# Altium footprint library con-harting-h.PCBLIB: 11 footprints
Each footprint in its own frame and in the unit in brackets; x right, y up, seen from the top. Pads: shape width x height; smd on the part's side, far side on the other; paste and mask are expansions set on the pad; w line width, h text height; cw(c..) or ccw(c..) is an arc to the next point about the centre after c.
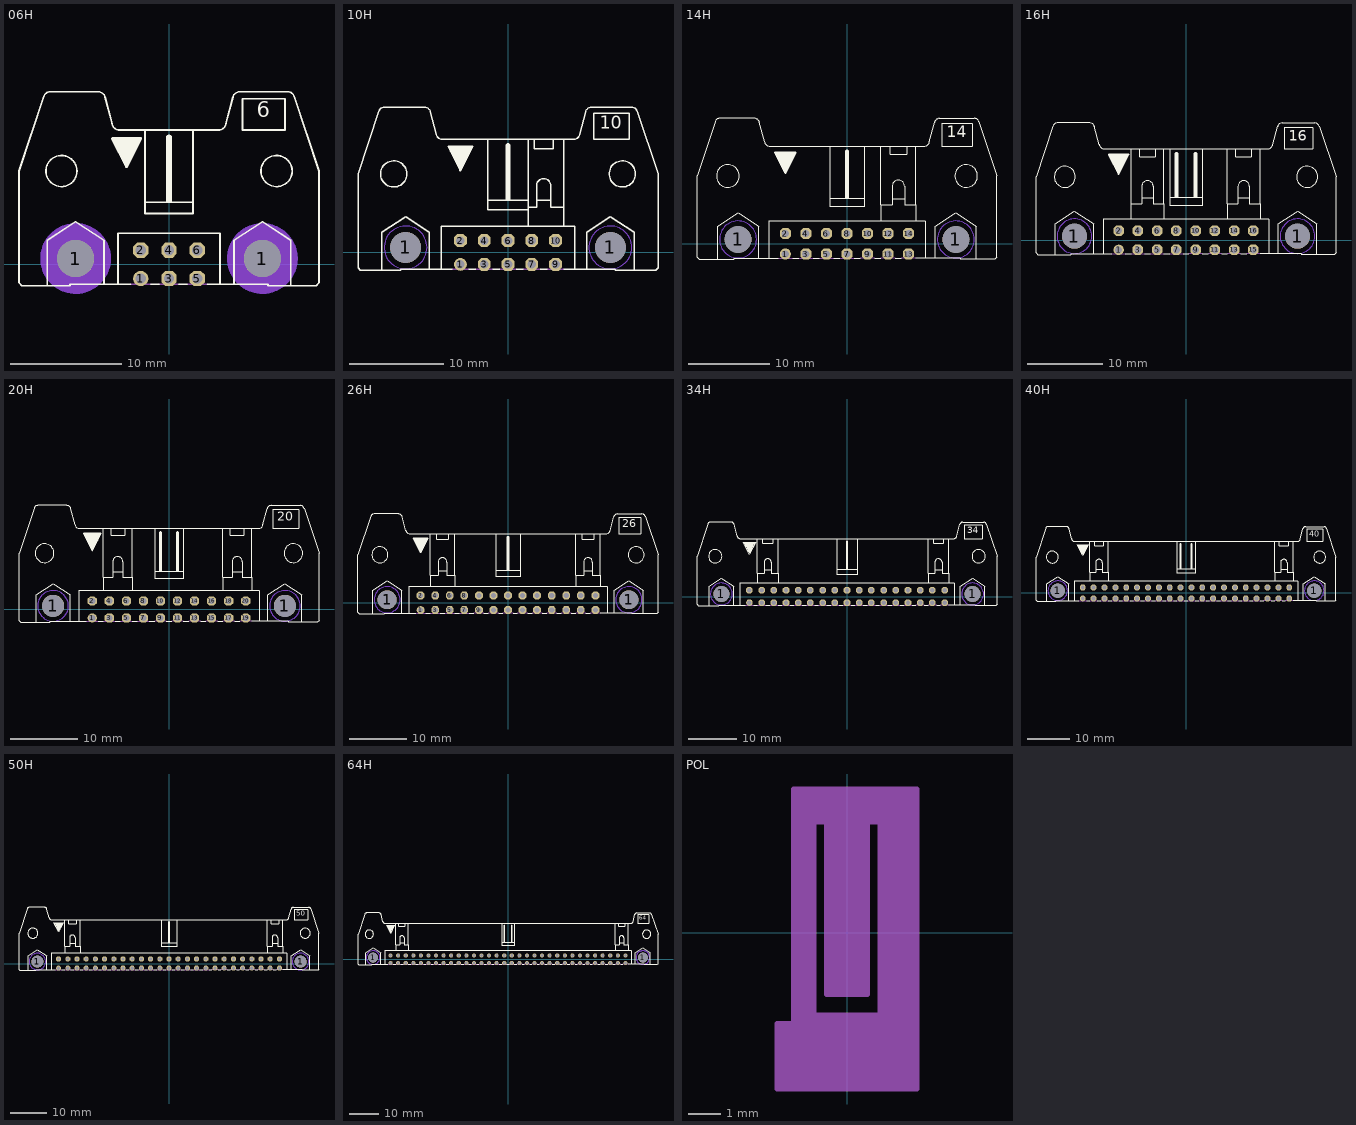
[diagram p0: the footprints below, top view; thin cyan lines are the x and y axes]

## 06H [mil]
pads (8):
  round 130 hole 130: 1(-330,21) 1(330,21)
  round 54 hole 36: 1(-100,-50)
  oct 54x54 hole 36: 2(-100,50) 3(0,-50) 4(0,50) 5(100,-50) 6(100,50)
Bottom Layer keep-out:
  circle w70: c330,21 r90
  circle w70: c-330,21 r90
Top Overlay:
  circle w6: c-330,21 r52
  circle w6: c330,21 r52
  circle w6: c380,330 r55
  circle w6: c-380,330 r55
  rectangle: -10,220 10,450
  rectangle: -195,425 -105,445
  rectangle: -185,405 -115,425
  rectangle: -175,385 -125,405
  rectangle: -165,365 -135,385
  rectangle: -155,355 -145,365
  lines w6: -442,594 -530,330 -530,-65 -520,-75 -430,-75 ; -441.91,594.01 cw(c-420,587) -420,610 -250,610 cw(c-250,585) -226,592 ; -225.75,591.06 ccw(c-250.08,585.09) -226,592 ; -201.76,498.43 ccw(c-175,502) -175,475 -85,475 ; -201,496 -226,592 ; -135,-70 -180,-70 ; -65,-70 -35,-70 ; 35,-70 65,-70 ; 135,-70 180,-70 ; 201,496 226,592 ; 201.76,498.43 cw(c175,502) 175,475 85,475 ; 225.75,591.06 cw(c250.08,585.09) 226,592 ; 441.9,594.01 ccw(c420,587) 420,610 250,610 ccw(c250,585) 226,592 ; 442,594 530,330 530,-65 520,-75 430,-75 ; -430,-75 -430,85 -330,150 -230,85 -230,-70 ; -430,-75 -350,-75 -350,-70 -230,-70 ; -230,-70 -180,-70 ; -180,-70 -180,110 180,110 180,-70 ; -85,220 -85,475 ; -85,220 85,220 ; -85,220 -85,180 85,180 85,220 ; -85,475 85,475 ; 85,220 85,475 ; 180,-70 230,-70 ; 230,-70 350,-70 350,-75 430,-75 ; 230,-70 230,85 330,150 430,85 430,-75 ; 260,475 260,585 410,585 410,475 260,475
  lines w10: -200,445 -100,445 -150,345 -200,445
  lines w20: 0,440 0,450
  text "6" at 310,500 h93
Mechanical 16:
  lines w6: -135,-70 -65,-70 ; -35,-70 35,-70 ; 65,-70 135,-70
  text "1" at -157,-56 h77.5
  text "2" at -158,24 h77.5
Via Holes:
  circle w70: c330,21 r90
  circle w70: c-330,21 r90

## 10H [mil]
pads (12):
  round 130 hole 130: 1(-430,21) 1(430,21)
  round 54 hole 36: 1(-200,-50)
  oct 54x54 hole 36: 2(-200,50) 3(-100,-50) 4(-100,50) 5(0,-50) 6(0,50) 7(100,-50) 8(100,50) 9(200,-50) 10(200,50)
Bottom Layer keep-out:
  circle w0: c430,21 r90
  circle w0: c-430,21 r90
Top Overlay:
  circle w6: c-430,21 r52
  circle w6: c430,21 r52
  circle w6: c480,330 r55
  circle w6: c-480,330 r55
  rectangle: -10,220 10,450
  rectangle: -245,425 -155,445
  rectangle: -235,405 -165,425
  rectangle: -225,385 -175,405
  rectangle: -215,365 -185,385
  rectangle: -205,355 -195,365
  lines w6: -542,594 -630,330 -630,-65 -620,-75 -530,-75 ; -541.91,594.01 cw(c-520,587) -520,610 -350,610 cw(c-350,585) -326,592 ; -325.75,591.06 ccw(c-350.08,585.09) -326,592 ; -301.76,498.43 ccw(c-275,502) -275,475 -85,475 ; -301,496 -326,592 ; -235,-70 -280,-70 ; -165,-70 -135,-70 ; -65,-70 -35,-70 ; 35,-70 65,-70 ; 110,475 110,435 190,435 190,475 ; 135,-70 165,-70 ; 235,-70 280,-70 ; 301,496 326,592 ; 301.76,498.43 cw(c275,502) 275,475 235,475 ; 325.75,591.06 cw(c350.08,585.09) 326,592 ; 541.9,594.01 ccw(c520,587) 520,610 350,610 ccw(c350,585) 326,592 ; 542,594 630,330 630,-65 620,-75 530,-75 ; -530,-75 -530,85 -430,150 -330,85 -330,-70 ; -530,-75 -450,-75 -450,-70 -330,-70 ; -330,-70 -280,-70 ; -280,-70 -280,110 85,110 ; -85,220 -85,475 ; -85,220 85,220 ; -85,220 -85,180 85,180 ; -85,475 85,475 ; 85,110 85,180 ; 85,110 235,110 ; 85,180 85,190 ; 85,190 120,190 120,220 ; 85,190 85,220 ; 85,220 85,475 ; 85,475 235,475 ; 120,220 120,280 cw(c150,280) 180,280 180,220 ; 120,220 180,220 ; 180,220 180,190 235,190 ; 235,110 235,190 ; 235,110 280,110 280,-70 ; 235,190 235,475 ; 280,-70 330,-70 ; 330,-70 450,-70 450,-75 530,-75 ; 330,-70 330,85 430,150 530,85 530,-75 ; 360,475 360,585 510,585 510,475 360,475
  lines w10: -250,445 -150,445 -200,345 -250,445
  lines w20: 0,440 0,450
  text "10" at 385,500 h93
Mechanical 16:
  lines w6: -235,-70 -165,-70 ; -135,-70 -65,-70 ; -35,-70 35,-70 ; 65,-70 135,-70 ; 165,-70 235,-70
  text "1" at -257,-56 h77.5
  text "2" at -258,24 h77.5
Via Holes:
  circle w0: c430,21 r90
  circle w0: c-430,21 r90

## 14H [mil]
pads (16):
  round 130 hole 130: 1(-530,21) 1(530,21)
  round 54 hole 36: 1(-300,-50)
  oct 54x54 hole 36: 2(-300,50) 3(-200,-50) 4(-200,50) 5(-100,-50) 6(-100,50) 7(0,-50) 8(0,50) 9(100,-50) 10(100,50) 11(200,-50) 12(200,50) 13(300,-50) 14(300,50)
Bottom Layer keep-out:
  circle w0: c530,21 r90
  circle w0: c-530,21 r90
Top Overlay:
  circle w6: c-530,21 r52
  circle w6: c530,21 r52
  circle w6: c580,330 r55
  circle w6: c-580,330 r55
  rectangle: -10,220 10,450
  rectangle: -345,425 -255,445
  rectangle: -335,405 -265,425
  rectangle: -325,385 -275,405
  rectangle: -315,365 -285,385
  rectangle: -305,355 -295,365
  lines w6: -642,594 -730,330 -730,-65 -720,-75 -630,-75 ; -641.91,594.01 cw(c-620,587) -620,610 -450,610 cw(c-450,585) -426,592 ; -425.75,591.06 ccw(c-450.08,585.09) -426,592 ; -401.76,498.43 ccw(c-375,502) -375,475 -85,475 ; -401,496 -426,592 ; -335,-70 -380,-70 ; -265,-70 -235,-70 ; -165,-70 -135,-70 ; -65,-70 -35,-70 ; 35,-70 65,-70 ; 135,-70 165,-70 ; 210,475 210,435 290,435 290,475 ; 235,-70 265,-70 ; 335,-70 380,-70 ; 335,475 335,190 ; 401,496 426,592 ; 401.76,498.43 cw(c375,502) 375,475 165,475 ; 425.75,591.06 cw(c450.08,585.09) 426,592 ; 641.9,594.01 ccw(c620,587) 620,610 450,610 ccw(c450,585) 426,592 ; 642,594 730,330 730,-65 720,-75 630,-75 ; -630,-75 -630,85 -530,150 -430,85 -430,-70 ; -630,-75 -550,-75 -550,-70 -430,-70 ; -430,-70 -380,-70 ; -380,-70 -380,110 165,110 ; -85,220 -85,475 ; -85,220 85,220 ; -85,220 -85,180 85,180 85,220 ; -85,475 85,475 ; 85,220 85,475 ; 85,475 165,475 ; 165,110 335,110 ; 165,110 165,190 ; 165,190 220,190 220,220 ; 165,190 165,475 ; 220,220 220,280 cw(c250,280) 280,280 280,220 ; 220,220 280,220 ; 280,220 280,190 335,190 ; 335,110 335,190 ; 335,110 380,110 380,-70 ; 380,-70 430,-70 ; 430,-70 550,-70 550,-75 630,-75 ; 430,-70 430,85 530,150 630,85 630,-75 ; 460,475 460,585 610,585 610,475 460,475
  lines w10: -350,445 -250,445 -300,345 -350,445
  lines w20: 0,440 0,450
  text "14" at 485,500 h93
Mechanical 16:
  lines w6: -335,-70 -265,-70 ; -235,-70 -165,-70 ; -135,-70 -65,-70 ; -35,-70 35,-70 ; 65,-70 135,-70 ; 165,-70 235,-70 ; 265,-70 335,-70
  text "1" at -357,-56 h77.5
  text "2" at -358,24 h77.5
Via Holes:
  circle w0: c530,21 r90
  circle w0: c-530,21 r90

## 16H [mil]
pads (18):
  round 130 hole 130: 1(-580,21) 1(580,21)
  round 54 hole 36: 1(-350,-50)
  oct 54x54 hole 36: 2(-350,50) 3(-250,-50) 4(-250,50) 5(-150,-50) 6(-150,50) 7(-50,-50) 8(-50,50) 9(50,-50) 10(50,50) 11(150,-50) 12(150,50) 13(250,-50) 14(250,50) 15(350,-50) 16(350,50)
Bottom Layer keep-out:
  circle w0: c-580,21 r90
  circle w0: c580,21 r90
Top Overlay:
  circle w6: c-580,21 r52
  circle w6: c580,21 r52
  circle w6: c630,330 r55
  circle w6: c-630,330 r55
  rectangle: 40,220 60,450
  rectangle: -395,425 -305,445
  rectangle: -385,405 -315,425
  rectangle: -375,385 -325,405
  rectangle: -365,365 -335,385
  rectangle: -355,355 -345,365
  rectangle: -60,220 -40,450
  lines w6: -692,594 -780,330 -780,-65 -770,-75 -680,-75 ; -691.91,594.01 cw(c-670,587) -670,610 -500,610 cw(c-500,585) -476,592 ; -475.75,591.06 ccw(c-500.08,585.09) -476,592 ; -451.76,498.43 ccw(c-425,502) -425,475 -285,475 ; -451,496 -476,592 ; -385,-70 -430,-70 ; -315,-70 -285,-70 ; -215,-70 -185,-70 ; -115,-70 -85,-70 ; -15,-70 15,-70 ; 85,-70 115,-70 ; 185,-70 215,-70 ; 260,475 260,435 340,435 340,475 ; 285,-70 315,-70 ; 385,-70 430,-70 ; 385,475 385,190 ; 451,496 476,592 ; 451.76,498.43 cw(c425,502) 425,475 215,475 ; 475.75,591.06 cw(c500.08,585.09) 476,592 ; 691.9,594.01 ccw(c670,587) 670,610 500,610 ccw(c500,585) 476,592 ; 692,594 780,330 780,-65 770,-75 680,-75 ; -680,-75 -680,85 -580,150 -480,85 -480,-70 ; -680,-75 -600,-75 -600,-70 -480,-70 ; -480,-70 -430,-70 ; -430,-70 -430,110 -285,110 ; -285,110 -285,190 ; -285,110 -115,110 ; -285,190 -285,475 ; -285,190 -230,190 -230,220 ; -285,475 -240,475 ; -240,475 -240,435 -160,435 -160,475 ; -240,475 -160,475 ; -230,220 -170,220 ; -230,220 -230,280 cw(c-200,280) -170,280 -170,220 ; -170,220 -170,190 -115,190 ; -160,475 -115,475 ; -115,110 215,110 ; -115,110 -115,190 ; -115,190 -115,475 ; -115,475 -85,475 ; -85,220 -85,475 ; -85,220 85,220 ; -85,220 -85,180 85,180 85,220 ; -85,475 85,475 ; 85,220 85,475 ; 85,475 215,475 ; 215,110 385,110 ; 215,110 215,190 ; 215,190 270,190 270,220 ; 215,190 215,475 ; 270,220 270,280 cw(c300,280) 330,280 330,220 ; 270,220 330,220 ; 330,220 330,190 385,190 ; 385,110 385,190 ; 385,110 430,110 430,-70 ; 430,-70 480,-70 ; 480,-70 600,-70 600,-75 680,-75 ; 480,-70 480,85 580,150 680,85 680,-75 ; 510,475 510,585 660,585 660,475 510,475
  lines w10: -400,445 -300,445 -350,345 -400,445
  lines w20: -50,440 -50,450 ; 50,440 50,450
  text "16" at 535,500 h93
Mechanical 16:
  lines w6: -385,-70 -315,-70 ; -285,-70 -215,-70 ; -185,-70 -115,-70 ; -85,-70 -15,-70 ; 15,-70 85,-70 ; 115,-70 185,-70 ; 215,-70 285,-70 ; 315,-70 385,-70
  text "1" at -407,-56 h77.5
  text "2" at -408,24 h77.5
Via Holes:
  circle w0: c-580,21 r90
  circle w0: c580,21 r90

## 20H [mil]
pads (22):
  round 130 hole 130: 1(-680,21) 1(680,21)
  round 54 hole 36: 1(-450,-50)
  oct 54x54 hole 36: 2(-450,50) 3(-350,-50) 4(-350,50) 5(-250,-50) 6(-250,50) 7(-150,-50) 8(-150,50) 9(-50,-50) 10(-50,50) 11(50,-50) 12(50,50) 13(150,-50) 14(150,50) 15(250,-50) 16(250,50) 17(350,-50) 18(350,50) 19(450,-50) 20(450,50)
Bottom Layer keep-out:
  circle w0: c-680,21 r90
  circle w0: c680,21 r90
Top Overlay:
  circle w6: c-680,21 r52
  circle w6: c680,21 r52
  circle w6: c730,330 r55
  circle w6: c-730,330 r55
  rectangle: 40,220 60,450
  rectangle: -495,425 -405,445
  rectangle: -485,405 -415,425
  rectangle: -475,385 -425,405
  rectangle: -465,365 -435,385
  rectangle: -455,355 -445,365
  rectangle: -60,220 -40,450
  lines w6: -792,594 -880,330 -880,-65 -870,-75 -780,-75 ; -791.91,594.01 cw(c-770,587) -770,610 -600,610 cw(c-600,585) -576,592 ; -575.75,591.06 ccw(c-600.08,585.09) -576,592 ; -551.76,498.43 ccw(c-525,502) -525,475 -385,475 ; -551,496 -576,592 ; -485,-70 -530,-70 ; -415,-70 -385,-70 ; -315,-70 -285,-70 ; -215,-70 -185,-70 ; -115,-70 -85,-70 ; -15,-70 15,-70 ; 85,-70 115,-70 ; 185,-70 215,-70 ; 285,-70 315,-70 ; 360,475 360,435 440,435 440,475 ; 385,-70 415,-70 ; 485,-70 530,-70 ; 485,475 485,190 ; 551,496 576,592 ; 551.76,498.43 cw(c525,502) 525,475 315,475 ; 575.75,591.06 cw(c600.08,585.09) 576,592 ; 791.9,594.01 ccw(c770,587) 770,610 600,610 ccw(c600,585) 576,592 ; 792,594 880,330 880,-65 870,-75 780,-75 ; -780,-75 -780,85 -680,150 -580,85 -580,-70 ; -780,-75 -700,-75 -700,-70 -580,-70 ; -580,-70 -530,-70 ; -530,-70 -530,110 -385,110 ; -385,110 -385,190 ; -385,110 -215,110 ; -385,190 -385,475 ; -385,190 -330,190 -330,220 ; -385,475 -340,475 ; -340,475 -340,435 -260,435 -260,475 ; -340,475 -260,475 ; -330,220 -270,220 ; -330,220 -330,280 cw(c-300,280) -270,280 -270,220 ; -270,220 -270,190 -215,190 ; -260,475 -215,475 ; -215,110 315,110 ; -215,110 -215,190 ; -215,190 -215,475 ; -215,475 -85,475 ; -85,220 -85,475 ; -85,220 85,220 ; -85,220 -85,180 85,180 85,220 ; -85,475 85,475 ; 85,220 85,475 ; 85,475 315,475 ; 315,110 485,110 ; 315,110 315,190 ; 315,190 370,190 370,220 ; 315,190 315,475 ; 370,220 370,280 cw(c400,280) 430,280 430,220 ; 370,220 430,220 ; 430,220 430,190 485,190 ; 485,110 485,190 ; 485,110 530,110 530,-70 ; 530,-70 580,-70 ; 580,-70 700,-70 700,-75 780,-75 ; 580,-70 580,85 680,150 780,85 780,-75 ; 610,475 610,585 760,585 760,475 610,475
  lines w10: -500,445 -400,445 -450,345 -500,445
  lines w20: -50,440 -50,450 ; 50,440 50,450
  text "20" at 635,500 h93
Mechanical 16:
  lines w6: -485,-70 -415,-70 ; -385,-70 -315,-70 ; -285,-70 -215,-70 ; -185,-70 -115,-70 ; -85,-70 -15,-70 ; 15,-70 85,-70 ; 115,-70 185,-70 ; 215,-70 285,-70 ; 315,-70 385,-70 ; 415,-70 485,-70
  text "1" at -507,-56 h77.5
  text "2" at -508,24 h77.5
Via Holes:
  circle w0: c-680,21 r90
  circle w0: c680,21 r90

## 26H [mil]
pads (28):
  round 130 hole 130: 1(-830,21) 1(830,21)
  round 54 hole 36: 1(-600,-50)
  oct 54x54 hole 36: 2(-600,50) 3(-500,-50) 4(-500,50) 5(-400,-50) 6(-400,50) 7(-300,-50) 8(-300,50) 9(-200,-50) 10(-200,50) 11(-100,-50) 12(-100,50) 13(0,-50) 14(0,50) 15(100,-50) 16(100,50) 17(200,-50) 18(200,50) 19(300,-50) 20(300,50) 21(400,-50) 22(400,50) 23(500,-50) 24(500,50) 25(600,-50) 26(600,50)
Bottom Layer keep-out:
  circle w0: c-830,21 r90
  circle w0: c830,21 r90
Top Overlay:
  circle w6: c-830,21 r52
  circle w6: c830,21 r52
  circle w6: c880,330 r55
  circle w6: c-880,330 r55
  rectangle: -645,425 -555,445
  rectangle: -635,405 -565,425
  rectangle: -625,385 -575,405
  rectangle: -615,365 -585,385
  rectangle: -605,355 -595,365
  rectangle: -10,220 10,450
  lines w6: -942,594 -1030,330 -1030,-65 -1020,-75 -930,-75 ; -941.91,594.01 cw(c-920,587) -920,610 -750,610 cw(c-750,585) -726,592 ; -725.75,591.06 ccw(c-750.08,585.09) -726,592 ; -701.76,498.43 ccw(c-675,502) -675,475 -535,475 ; -701,496 -726,592 ; -635,-70 -680,-70 ; -565,-70 -535,-70 ; -465,-70 -435,-70 ; -365,-70 -335,-70 ; -265,-70 -235,-70 ; -165,-70 -135,-70 ; -65,-70 -35,-70 ; 35,-70 65,-70 ; 135,-70 165,-70 ; 235,-70 265,-70 ; 335,-70 365,-70 ; 435,-70 465,-70 ; 510,475 510,435 590,435 590,475 ; 535,-70 565,-70 ; 635,-70 680,-70 ; 635,475 635,190 ; 701,496 726,592 ; 701.76,498.43 cw(c675,502) 675,475 465,475 ; 725.75,591.06 cw(c750.08,585.09) 726,592 ; 941.9,594.01 ccw(c920,587) 920,610 750,610 ccw(c750,585) 726,592 ; 942,594 1030,330 1030,-65 1020,-75 930,-75 ; -930,-75 -930,85 -830,150 -730,85 -730,-70 ; -930,-75 -850,-75 -850,-70 -730,-70 ; -730,-70 -680,-70 ; -680,-70 -680,110 -535,110 ; -535,110 -535,190 ; -535,110 -365,110 ; -535,190 -535,475 ; -535,190 -480,190 -480,220 ; -535,475 -490,475 ; -490,475 -490,435 -410,435 -410,475 ; -490,475 -410,475 ; -480,220 -420,220 ; -480,220 -480,280 cw(c-450,280) -420,280 -420,220 ; -420,220 -420,190 -365,190 ; -410,475 -365,475 ; -365,110 465,110 ; -365,110 -365,190 ; -365,190 -365,475 ; -365,475 -85,475 ; -85,220 -85,475 ; -85,220 85,220 ; -85,220 -85,180 85,180 85,220 ; -85,475 85,475 ; 85,220 85,475 ; 85,475 465,475 ; 465,110 635,110 ; 465,110 465,190 ; 465,190 520,190 520,220 ; 465,190 465,475 ; 520,220 520,280 cw(c550,280) 580,280 580,220 ; 520,220 580,220 ; 580,220 580,190 635,190 ; 635,110 635,190 ; 635,110 680,110 680,-70 ; 680,-70 730,-70 ; 730,-70 850,-70 850,-75 930,-75 ; 730,-70 730,85 830,150 930,85 930,-75 ; 760,475 760,585 910,585 910,475 760,475
  lines w10: -650,445 -550,445 -600,345 -650,445
  lines w20: 0,440 0,450
  text "26" at 785,500 h93
Mechanical 16:
  lines w6: -635,-70 -565,-70 ; -535,-70 -465,-70 ; -435,-70 -365,-70 ; -335,-70 -265,-70 ; -235,-70 -165,-70 ; -135,-70 -65,-70 ; -35,-70 35,-70 ; 65,-70 135,-70 ; 165,-70 235,-70 ; 265,-70 335,-70 ; 365,-70 435,-70 ; 465,-70 535,-70 ; 565,-70 635,-70
  text "1" at -657,-56 h77.5
  text "2" at -658,24 h77.5
Via Holes:
  circle w0: c-830,21 r90
  circle w0: c830,21 r90

## 34H [mil]
pads (36):
  round 130 hole 130: 1(-1030,21) 1(1030,21)
  round 54 hole 36: 1(-800,-50)
  oct 54x54 hole 36: 2(-800,50) 3(-700,-50) 4(-700,50) 5(-600,-50) 6(-600,50) 7(-500,-50) 8(-500,50) 9(-400,-50) 10(-400,50) 11(-300,-50) 12(-300,50) 13(-200,-50) 14(-200,50) 15(-100,-50) 16(-100,50) 17(0,-50) 18(0,50) 19(100,-50) 20(100,50) 21(200,-50) 22(200,50) 23(300,-50) 24(300,50) 25(400,-50) 26(400,50) 27(500,-50) 28(500,50) 29(600,-50) 30(600,50) 31(700,-50) 32(700,50) 33(800,-50) 34(800,50)
Bottom Layer keep-out:
  circle w0: c-1030,21 r90
  circle w0: c1030,21 r90
Top Overlay:
  circle w6: c-1030,21 r52
  circle w6: c1030,21 r52
  circle w6: c1080,330 r55
  circle w6: c-1080,330 r55
  rectangle: -845,425 -755,445
  rectangle: -835,405 -765,425
  rectangle: -825,385 -775,405
  rectangle: -815,365 -785,385
  rectangle: -805,355 -795,365
  rectangle: -10,220 10,450
  lines w6: -1142,594 -1230,330 -1230,-65 -1220,-75 -1130,-75 ; -1141.91,594.01 cw(c-1120,587) -1120,610 -950,610 cw(c-950,585) -926,592 ; -925.75,591.06 ccw(c-950.08,585.09) -926,592 ; -901.76,498.43 ccw(c-875,502) -875,475 -735,475 ; -901,496 -926,592 ; -835,-70 -880,-70 ; -765,-70 -735,-70 ; -665,-70 -635,-70 ; -565,-70 -535,-70 ; -465,-70 -435,-70 ; -365,-70 -335,-70 ; -265,-70 -235,-70 ; -165,-70 -135,-70 ; -65,-70 -35,-70 ; 35,-70 65,-70 ; 135,-70 165,-70 ; 235,-70 265,-70 ; 335,-70 365,-70 ; 435,-70 465,-70 ; 535,-70 565,-70 ; 635,-70 665,-70 ; 710,475 710,435 790,435 790,475 ; 735,-70 765,-70 ; 835,-70 880,-70 ; 835,475 835,190 ; 901,496 926,592 ; 901.76,498.43 cw(c875,502) 875,475 665,475 ; 925.75,591.06 cw(c950.08,585.09) 926,592 ; 1141.9,594.01 ccw(c1120,587) 1120,610 950,610 ccw(c950,585) 926,592 ; 1142,594 1230,330 1230,-65 1220,-75 1130,-75 ; -1130,-75 -1130,85 -1030,150 -930,85 -930,-70 ; -1130,-75 -1050,-75 -1050,-70 -930,-70 ; -930,-70 -880,-70 ; -880,-70 -880,110 -735,110 ; -735,110 -735,190 ; -735,110 -565,110 ; -735,190 -735,475 ; -735,190 -680,190 -680,220 ; -735,475 -690,475 ; -690,475 -690,435 -610,435 -610,475 ; -690,475 -610,475 ; -680,220 -620,220 ; -680,220 -680,280 cw(c-650,280) -620,280 -620,220 ; -620,220 -620,190 -565,190 ; -610,475 -565,475 ; -565,110 665,110 ; -565,110 -565,190 ; -565,190 -565,475 ; -565,475 -85,475 ; -85,220 -85,475 ; -85,220 85,220 ; -85,220 -85,180 85,180 85,220 ; -85,475 85,475 ; 85,220 85,475 ; 85,475 665,475 ; 665,110 835,110 ; 665,110 665,190 ; 665,190 720,190 720,220 ; 665,190 665,475 ; 720,220 720,280 cw(c750,280) 780,280 780,220 ; 720,220 780,220 ; 780,220 780,190 835,190 ; 835,110 835,190 ; 835,110 880,110 880,-70 ; 880,-70 930,-70 ; 930,-70 1050,-70 1050,-75 1130,-75 ; 930,-70 930,85 1030,150 1130,85 1130,-75 ; 960,475 960,585 1110,585 1110,475 960,475
  lines w10: -850,445 -750,445 -800,345 -850,445
  lines w20: 0,440 0,450
  text "34" at 985,500 h93
Mechanical 16:
  lines w6: -835,-70 -765,-70 ; -735,-70 -665,-70 ; -635,-70 -565,-70 ; -535,-70 -465,-70 ; -435,-70 -365,-70 ; -335,-70 -265,-70 ; -235,-70 -165,-70 ; -135,-70 -65,-70 ; -35,-70 35,-70 ; 65,-70 135,-70 ; 165,-70 235,-70 ; 265,-70 335,-70 ; 365,-70 435,-70 ; 465,-70 535,-70 ; 565,-70 635,-70 ; 665,-70 735,-70 ; 765,-70 835,-70
  text "1" at -857,-56 h77.5
  text "2" at -858,24 h77.5
Via Holes:
  circle w0: c-1030,21 r90
  circle w0: c1030,21 r90

## 40H [mil]
pads (42):
  round 130 hole 130: 1(-1180,21) 1(1180,21)
  round 54 hole 36: 1(-950,-50)
  oct 54x54 hole 36: 2(-950,50) 3(-850,-50) 4(-850,50) 5(-750,-50) 6(-750,50) 7(-650,-50) 8(-650,50) 9(-550,-50) 10(-550,50) 11(-450,-50) 12(-450,50) 13(-350,-50) 14(-350,50) 15(-250,-50) 16(-250,50) 17(-150,-50) 18(-150,50) 19(-50,-50) 20(-50,50) 21(50,-50) 22(50,50) 23(150,-50) 24(150,50) 25(250,-50) 26(250,50) 27(350,-50) 28(350,50) 29(450,-50) 30(450,50) 31(550,-50) 32(550,50) 33(650,-50) 34(650,50) 35(750,-50) 36(750,50) 37(850,-50) 38(850,50) 39(950,-50) 40(950,50)
Bottom Layer keep-out:
  circle w0: c-1180,21 r90
  circle w0: c1180,21 r90
Top Overlay:
  circle w6: c-1180,21 r52
  circle w6: c1180,21 r52
  circle w6: c1230,330 r55
  circle w6: c-1230,330 r55
  rectangle: 40,220 60,450
  rectangle: -995,425 -905,445
  rectangle: -985,405 -915,425
  rectangle: -975,385 -925,405
  rectangle: -965,365 -935,385
  rectangle: -955,355 -945,365
  rectangle: -60,220 -40,450
  lines w6: -1292,594 -1380,330 -1380,-65 -1370,-75 -1280,-75 ; -1291.91,594.01 cw(c-1270,587) -1270,610 -1100,610 cw(c-1100,585) -1076,592 ; -1075.75,591.06 ccw(c-1100.08,585.09) -1076,592 ; -1051.76,498.43 ccw(c-1025,502) -1025,475 -885,475 ; -1051,496 -1076,592 ; -985,-70 -1030,-70 ; -915,-70 -885,-70 ; -815,-70 -785,-70 ; -715,-70 -685,-70 ; -615,-70 -585,-70 ; -515,-70 -485,-70 ; -415,-70 -385,-70 ; -315,-70 -285,-70 ; -215,-70 -185,-70 ; -115,-70 -85,-70 ; -15,-70 15,-70 ; 85,-70 115,-70 ; 185,-70 215,-70 ; 285,-70 315,-70 ; 385,-70 415,-70 ; 485,-70 515,-70 ; 585,-70 615,-70 ; 685,-70 715,-70 ; 785,-70 815,-70 ; 860,475 860,435 940,435 940,475 ; 885,-70 915,-70 ; 985,-70 1030,-70 ; 985,475 985,190 ; 1051,496 1076,592 ; 1051.76,498.43 cw(c1025,502) 1025,475 815,475 ; 1075.75,591.06 cw(c1100.08,585.09) 1076,592 ; 1291.9,594.01 ccw(c1270,587) 1270,610 1100,610 ccw(c1100,585) 1076,592 ; 1292,594 1380,330 1380,-65 1370,-75 1280,-75 ; -1280,-75 -1280,85 -1180,150 -1080,85 -1080,-70 ; -1280,-75 -1200,-75 -1200,-70 -1080,-70 ; -1080,-70 -1030,-70 ; -1030,-70 -1030,110 -885,110 ; -885,110 -885,190 ; -885,110 -715,110 ; -885,190 -885,475 ; -885,190 -830,190 -830,220 ; -885,475 -840,475 ; -840,475 -840,435 -760,435 -760,475 ; -840,475 -760,475 ; -830,220 -770,220 ; -830,220 -830,280 cw(c-800,280) -770,280 -770,220 ; -770,220 -770,190 -715,190 ; -760,475 -715,475 ; -715,110 815,110 ; -715,110 -715,190 ; -715,190 -715,475 ; -715,475 -85,475 ; -85,220 -85,475 ; -85,220 85,220 ; -85,220 -85,180 85,180 85,220 ; -85,475 85,475 ; 85,220 85,475 ; 85,475 815,475 ; 815,110 985,110 ; 815,110 815,190 ; 815,190 870,190 870,220 ; 815,190 815,475 ; 870,220 870,280 cw(c900,280) 930,280 930,220 ; 870,220 930,220 ; 930,220 930,190 985,190 ; 985,110 985,190 ; 985,110 1030,110 1030,-70 ; 1030,-70 1080,-70 ; 1080,-70 1200,-70 1200,-75 1280,-75 ; 1080,-70 1080,85 1180,150 1280,85 1280,-75 ; 1110,475 1110,585 1260,585 1260,475 1110,475
  lines w10: -1000,445 -900,445 -950,345 -1000,445
  lines w20: -50,440 -50,450 ; 50,440 50,450
  text "40" at 1135,500 h93
Mechanical 16:
  lines w6: -985,-70 -915,-70 ; -885,-70 -815,-70 ; -785,-70 -715,-70 ; -685,-70 -615,-70 ; -585,-70 -515,-70 ; -485,-70 -415,-70 ; -385,-70 -315,-70 ; -285,-70 -215,-70 ; -185,-70 -115,-70 ; -85,-70 -15,-70 ; 15,-70 85,-70 ; 115,-70 185,-70 ; 215,-70 285,-70 ; 315,-70 385,-70 ; 415,-70 485,-70 ; 515,-70 585,-70 ; 615,-70 685,-70 ; 715,-70 785,-70 ; 815,-70 885,-70 ; 915,-70 985,-70
  text "1" at -1007,-56 h77.5
  text "2" at -1008,24 h77.5
Via Holes:
  circle w0: c-1180,21 r90
  circle w0: c1180,21 r90

## 50H [mil]
pads (52):
  round 130 hole 130: 1(-1430,21) 1(1430,21)
  round 54 hole 36: 1(-1200,-50)
  oct 54x54 hole 36: 2(-1200,50) 3(-1100,-50) 4(-1100,50) 5(-1000,-50) 6(-1000,50) 7(-900,-50) 8(-900,50) 9(-800,-50) 10(-800,50) 11(-700,-50) 12(-700,50) 13(-600,-50) 14(-600,50) 15(-500,-50) 16(-500,50) 17(-400,-50) 18(-400,50) 19(-300,-50) 20(-300,50) 21(-200,-50) 22(-200,50) 23(-100,-50) 24(-100,50) 25(0,-50) 26(0,50) 27(100,-50) 28(100,50) 29(200,-50) 30(200,50) 31(300,-50) 32(300,50) 33(400,-50) 34(400,50) 35(500,-50) 36(500,50) 37(600,-50) 38(600,50) 39(700,-50) 40(700,50) 41(800,-50) 42(800,50) 43(900,-50) 44(900,50) 45(1000,-50) 46(1000,50) 47(1100,-50) 48(1100,50) 49(1200,-50) 50(1200,50)
Bottom Layer keep-out:
  circle w0: c-1430,21 r90
  circle w0: c1430,21 r90
Top Overlay:
  circle w6: c-1430,21 r52
  circle w6: c1430,21 r52
  circle w6: c1480,330 r55
  circle w6: c-1480,330 r55
  rectangle: -1245,425 -1155,445
  rectangle: -1235,405 -1165,425
  rectangle: -1225,385 -1175,405
  rectangle: -1215,365 -1185,385
  rectangle: -1205,355 -1195,365
  rectangle: -10,220 10,450
  lines w6: -1542,594 -1630,330 -1630,-65 -1620,-75 -1530,-75 ; -1541.91,594.01 cw(c-1520,587) -1520,610 -1350,610 cw(c-1350,585) -1326,592 ; -1325.75,591.06 ccw(c-1350.08,585.09) -1326,592 ; -1301.76,498.43 ccw(c-1275,502) -1275,475 -1135,475 ; -1301,496 -1326,592 ; -1235,-70 -1280,-70 ; -1165,-70 -1135,-70 ; -1065,-70 -1035,-70 ; -965,-70 -935,-70 ; -865,-70 -835,-70 ; -765,-70 -735,-70 ; -665,-70 -635,-70 ; -565,-70 -535,-70 ; -465,-70 -435,-70 ; -365,-70 -335,-70 ; -265,-70 -235,-70 ; -165,-70 -135,-70 ; -65,-70 -35,-70 ; 35,-70 65,-70 ; 135,-70 165,-70 ; 235,-70 265,-70 ; 335,-70 365,-70 ; 435,-70 465,-70 ; 535,-70 565,-70 ; 635,-70 665,-70 ; 735,-70 765,-70 ; 835,-70 865,-70 ; 935,-70 965,-70 ; 1035,-70 1065,-70 ; 1110,475 1110,435 1190,435 1190,475 ; 1135,-70 1165,-70 ; 1235,-70 1280,-70 ; 1235,475 1235,190 ; 1301,496 1326,592 ; 1301.76,498.43 cw(c1275,502) 1275,475 1065,475 ; 1325.75,591.06 cw(c1350.08,585.09) 1326,592 ; 1541.9,594.01 ccw(c1520,587) 1520,610 1350,610 ccw(c1350,585) 1326,592 ; 1542,594 1630,330 1630,-65 1620,-75 1530,-75 ; -1530,-75 -1530,85 -1430,150 -1330,85 -1330,-70 ; -1530,-75 -1450,-75 -1450,-70 -1330,-70 ; -1330,-70 -1280,-70 ; -1280,-70 -1280,110 -1135,110 ; -1135,110 -1135,190 ; -1135,110 -965,110 ; -1135,190 -1135,475 ; -1135,190 -1080,190 -1080,220 ; -1135,475 -1090,475 ; -1090,475 -1090,435 -1010,435 -1010,475 ; -1090,475 -1010,475 ; -1080,220 -1020,220 ; -1080,220 -1080,280 cw(c-1050,280) -1020,280 -1020,220 ; -1020,220 -1020,190 -965,190 ; -1010,475 -965,475 ; -965,110 1065,110 ; -965,110 -965,190 ; -965,190 -965,475 ; -965,475 -85,475 ; -85,220 -85,475 ; -85,220 85,220 ; -85,220 -85,180 85,180 85,220 ; -85,475 85,475 ; 85,220 85,475 ; 85,475 1065,475 ; 1065,110 1235,110 ; 1065,110 1065,190 ; 1065,190 1120,190 1120,220 ; 1065,190 1065,475 ; 1120,220 1120,280 cw(c1150,280) 1180,280 1180,220 ; 1120,220 1180,220 ; 1180,220 1180,190 1235,190 ; 1235,110 1235,190 ; 1235,110 1280,110 1280,-70 ; 1280,-70 1330,-70 ; 1330,-70 1450,-70 1450,-75 1530,-75 ; 1330,-70 1330,85 1430,150 1530,85 1530,-75 ; 1360,475 1360,585 1510,585 1510,475 1360,475
  lines w10: -1250,445 -1150,445 -1200,345 -1250,445
  lines w20: 0,440 0,450
  text "50" at 1385,500 h93
Mechanical 16:
  lines w6: -1235,-70 -1165,-70 ; -1135,-70 -1065,-70 ; -1035,-70 -965,-70 ; -935,-70 -865,-70 ; -835,-70 -765,-70 ; -735,-70 -665,-70 ; -635,-70 -565,-70 ; -535,-70 -465,-70 ; -435,-70 -365,-70 ; -335,-70 -265,-70 ; -235,-70 -165,-70 ; -135,-70 -65,-70 ; -35,-70 35,-70 ; 65,-70 135,-70 ; 165,-70 235,-70 ; 265,-70 335,-70 ; 365,-70 435,-70 ; 465,-70 535,-70 ; 565,-70 635,-70 ; 665,-70 735,-70 ; 765,-70 835,-70 ; 865,-70 935,-70 ; 965,-70 1035,-70 ; 1065,-70 1135,-70 ; 1165,-70 1235,-70
  text "1" at -1257,-56 h77.5
  text "2" at -1258,24 h77.5
Via Holes:
  circle w0: c-1430,21 r90
  circle w0: c1430,21 r90

## 64H [mil]
pads (66):
  round 130 hole 130: 1(-1780,21) 1(1780,21)
  round 54 hole 36: 1(-1550,-50)
  oct 54x54 hole 36: 2(-1550,50) 3(-1450,-50) 4(-1450,50) 5(-1350,-50) 6(-1350,50) 7(-1250,-50) 8(-1250,50) 9(-1150,-50) 10(-1150,50) 11(-1050,-50) 12(-1050,50) 13(-950,-50) 14(-950,50) 15(-850,-50) 16(-850,50) 17(-750,-50) 18(-750,50) 19(-650,-50) 20(-650,50) 21(-550,-50) 22(-550,50) 23(-450,-50) 24(-450,50) 25(-350,-50) 26(-350,50) 27(-250,-50) 28(-250,50) 29(-150,-50) 30(-150,50) 31(-50,-50) 32(-50,50) 33(50,-50) 34(50,50) 35(150,-50) 36(150,50) 37(250,-50) 38(250,50) 39(350,-50) 40(350,50) 41(450,-50) 42(450,50) 43(550,-50) 44(550,50) 45(650,-50) 46(650,50) 47(750,-50) 48(750,50) 49(850,-50) 50(850,50) 51(950,-50) 52(950,50) 53(1050,-50) 54(1050,50) 55(1150,-50) 56(1150,50) 57(1250,-50) 58(1250,50) 59(1350,-50) 60(1350,50) 61(1450,-50) 62(1450,50) 63(1550,-50) 64(1550,50)
Bottom Layer keep-out:
  circle w0: c-1780,21 r90
  circle w0: c1780,21 r90
Top Overlay:
  circle w6: c-1780,21 r52
  circle w6: c1780,21 r52
  circle w6: c1830,330 r55
  circle w6: c-1830,330 r55
  rectangle: 40,220 60,450
  rectangle: -1595,425 -1505,445
  rectangle: -1585,405 -1515,425
  rectangle: -1575,385 -1525,405
  rectangle: -1565,365 -1535,385
  rectangle: -1555,355 -1545,365
  rectangle: -60,220 -40,450
  lines w6: -1892,594 -1980,330 -1980,-65 -1970,-75 -1880,-75 ; -1891.91,594.01 cw(c-1870,587) -1870,610 -1700,610 cw(c-1700,585) -1676,592 ; -1675.75,591.06 ccw(c-1700.08,585.09) -1676,592 ; -1651.76,498.43 ccw(c-1625,502) -1625,475 -1485,475 ; -1651,496 -1676,592 ; -1585,-70 -1630,-70 ; -1515,-70 -1485,-70 ; -1415,-70 -1385,-70 ; -1315,-70 -1285,-70 ; -1215,-70 -1185,-70 ; -1115,-70 -1085,-70 ; -1015,-70 -985,-70 ; -915,-70 -885,-70 ; -815,-70 -785,-70 ; -715,-70 -685,-70 ; -615,-70 -585,-70 ; -515,-70 -485,-70 ; -415,-70 -385,-70 ; -315,-70 -285,-70 ; -215,-70 -185,-70 ; -115,-70 -85,-70 ; -15,-70 15,-70 ; 85,-70 115,-70 ; 185,-70 215,-70 ; 285,-70 315,-70 ; 385,-70 415,-70 ; 485,-70 515,-70 ; 585,-70 615,-70 ; 685,-70 715,-70 ; 785,-70 815,-70 ; 885,-70 915,-70 ; 985,-70 1015,-70 ; 1085,-70 1115,-70 ; 1185,-70 1215,-70 ; 1285,-70 1315,-70 ; 1385,-70 1415,-70 ; 1460,475 1460,435 1540,435 1540,475 ; 1485,-70 1515,-70 ; 1585,-70 1630,-70 ; 1585,475 1585,190 ; 1651,496 1676,592 ; 1651.76,498.43 cw(c1625,502) 1625,475 1415,475 ; 1675.75,591.06 cw(c1700.08,585.09) 1676,592 ; 1891.9,594.01 ccw(c1870,587) 1870,610 1700,610 ccw(c1700,585) 1676,592 ; 1892,594 1980,330 1980,-65 1970,-75 1880,-75 ; -1880,-75 -1880,85 -1780,150 -1680,85 -1680,-70 ; -1880,-75 -1800,-75 -1800,-70 -1680,-70 ; -1680,-70 -1630,-70 ; -1630,-70 -1630,110 -1485,110 ; -1485,110 -1485,190 ; -1485,110 -1315,110 ; -1485,190 -1485,475 ; -1485,190 -1430,190 -1430,220 ; -1485,475 -1440,475 ; -1440,475 -1440,435 -1360,435 -1360,475 ; -1440,475 -1360,475 ; -1430,220 -1370,220 ; -1430,220 -1430,280 cw(c-1400,280) -1370,280 -1370,220 ; -1370,220 -1370,190 -1315,190 ; -1360,475 -1315,475 ; -1315,110 1415,110 ; -1315,110 -1315,190 ; -1315,190 -1315,475 ; -1315,475 -85,475 ; -85,220 -85,475 ; -85,220 85,220 ; -85,220 -85,180 85,180 85,220 ; -85,475 85,475 ; 85,220 85,475 ; 85,475 1415,475 ; 1415,110 1585,110 ; 1415,110 1415,190 ; 1415,190 1470,190 1470,220 ; 1415,190 1415,475 ; 1470,220 1470,280 cw(c1500,280) 1530,280 1530,220 ; 1470,220 1530,220 ; 1530,220 1530,190 1585,190 ; 1585,110 1585,190 ; 1585,110 1630,110 1630,-70 ; 1630,-70 1680,-70 ; 1680,-70 1800,-70 1800,-75 1880,-75 ; 1680,-70 1680,85 1780,150 1880,85 1880,-75 ; 1710,475 1710,585 1860,585 1860,475 1710,475
  lines w10: -1600,445 -1500,445 -1550,345 -1600,445
  lines w20: -50,440 -50,450 ; 50,440 50,450
  text "64" at 1735,500 h93
Mechanical 16:
  lines w6: -1585,-70 -1515,-70 ; -1485,-70 -1415,-70 ; -1385,-70 -1315,-70 ; -1285,-70 -1215,-70 ; -1185,-70 -1115,-70 ; -1085,-70 -1015,-70 ; -985,-70 -915,-70 ; -885,-70 -815,-70 ; -785,-70 -715,-70 ; -685,-70 -615,-70 ; -585,-70 -515,-70 ; -485,-70 -415,-70 ; -385,-70 -315,-70 ; -285,-70 -215,-70 ; -185,-70 -115,-70 ; -85,-70 -15,-70 ; 15,-70 85,-70 ; 115,-70 185,-70 ; 215,-70 285,-70 ; 315,-70 385,-70 ; 415,-70 485,-70 ; 515,-70 585,-70 ; 615,-70 685,-70 ; 715,-70 785,-70 ; 815,-70 885,-70 ; 915,-70 985,-70 ; 1015,-70 1085,-70 ; 1115,-70 1185,-70 ; 1215,-70 1285,-70 ; 1315,-70 1385,-70 ; 1415,-70 1485,-70 ; 1515,-70 1585,-70
  text "1" at -1607,-56 h77.5
  text "2" at -1608,24 h77.5
Via Holes:
  circle w0: c-1780,21 r90
  circle w0: c1780,21 r90

## POL [mil]
Mechanical 16:
  rectangle: -25,-75 25,135
  rectangle: -85,-190 85,-110
  rectangle: -65,-110 -40,135
  rectangle: -40,-110 85,-100
  rectangle: 40,-100 85,135
  rectangle: -65,135 85,175
  lines w6: -25,135 -25,-75 25,-75 25,135 ; -25,135 -40,135 -40,-100 40,-100 40,135 25,135 ; -25,135 25,135 ; -85,-190 85,-190 85,175 -65,175 -65,-110 -85,-110 -85,-190